# Altium footprint library CN_DB9_FEM_STRAIGHT.PcbLib: 1 footprints
Each footprint in its own frame and in the unit in brackets; x right, y up, seen from the top. Pads: shape width x height; smd on the part's side, far side on the other; paste and mask are expansions set on the pad; w line width, h text height; cw(c..) or ccw(c..) is an arc to the next point about the centre after c.
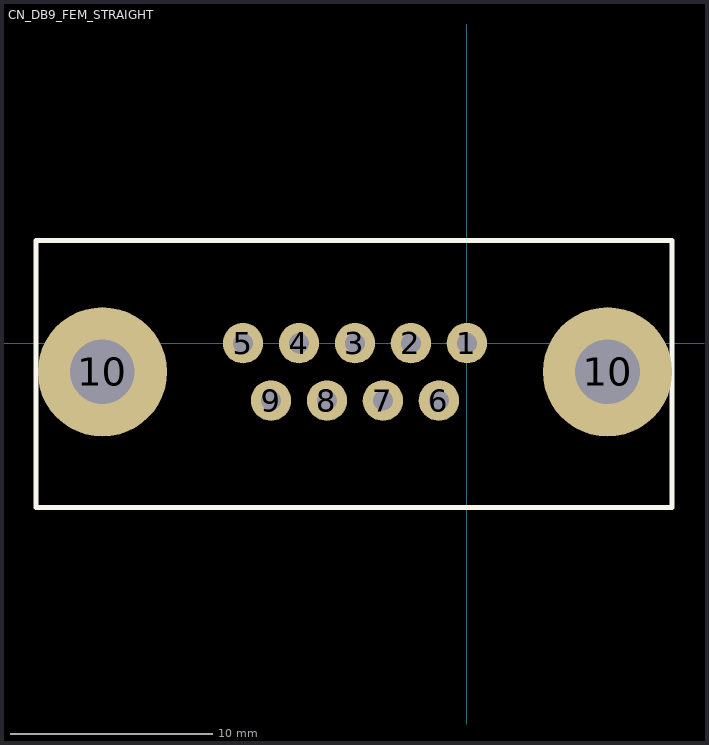
[diagram p0: the footprint, top view; thin cyan lines are the x and y axes]

## CN_DB9_FEM_STRAIGHT [mm]
pads (11):
  round 2 hole 1: 1(0,0) 2(-2.77,0) 3(-5.54,0) 4(-8.31,0) 5(-11.08,0) 6(-1.385,-2.84) 7(-4.155,-2.84) 8(-6.925,-2.84) 9(-9.695,-2.84)
  round 6.4 hole 3.2: 10(-18.04,-1.42) 10(6.96,-1.42)
Top Overlay:
  lines w0.254: -21.336,-8.128 10.16,-8.128 10.16,5.08 -20.828,5.08 -21.336,5.08 -21.336,-8.128
3D body: height 12.5, standoff -4.5, extent -20.94,-7.695 9.86,4.855